# EAGLE library part I2C-ADT7410 (library gclue)
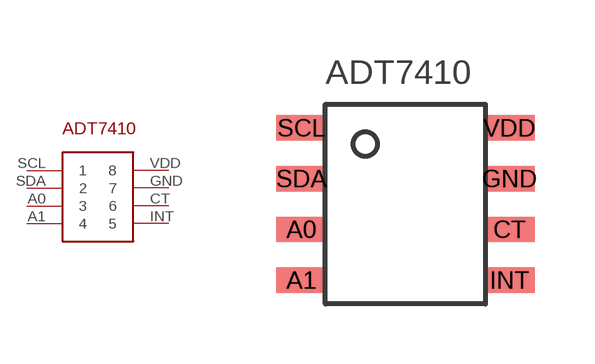
[diagram p11: symbol with the pads of I2C-ADT7410; footprint I2C-ADT7410]

Designator prefix -

## I2C-ADT7410  [I2C-ADT7410]
A0  3
A1  4
CT  6
GND  7
INT  5
SCL  1
SDA  2
VDD  8

## Footprint I2C-ADT7410 (pad centres in mm)
smd 1.27 x 0.635: A0 -2.6,-0.635; A1 -2.6,-1.905; CT 2.6,-0.635; GND 2.6,0.635; INT 2.6,-1.905; SCL -2.6,1.905; SDA -2.6,0.635; VDD 2.6,1.905